# Altium footprint library QSTL_24DC_4MW_PCB.PcbLib: 2 footprints
Each footprint in its own frame and in the unit in brackets; x right, y up, seen from the top. Pads: shape width x height; smd on the part's side, far side on the other; paste and mask are expansions set on the pad; w line width, h text height; cw(c..) or ccw(c..) is an arc to the next point about the centre after c.
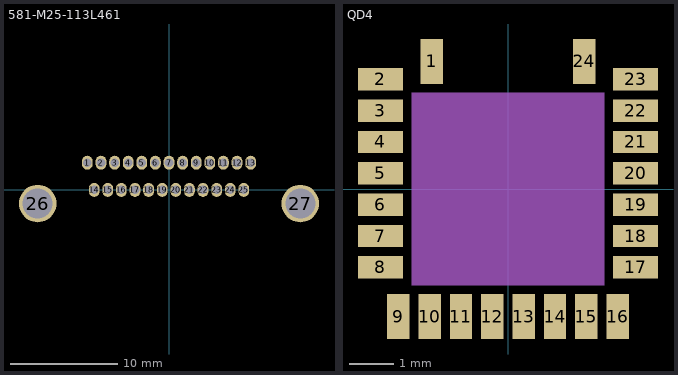
[diagram p0: the footprints below, top view; thin cyan lines are the x and y axes]

## 581-M25-113L461 [mm]
pads (27):
  oval 1x1.3 hole 0.8: 1(-7.62,2.54) 2(-6.35,2.54) 3(-5.08,2.54) 4(-3.81,2.54) 5(-2.54,2.54) 6(-1.27,2.54) 7(0,2.54) 8(1.27,2.54) 9(2.54,2.54) 10(3.81,2.54) 11(5.08,2.54) 12(6.35,2.54) 13(7.62,2.54) 14(-6.985,0) 15(-5.715,0) 16(-4.445,0) 17(-3.175,0) 18(-1.905,0) 19(-0.635,0) 20(0.635,0) 21(1.905,0) 22(3.175,0) 23(4.445,0) 24(5.715,0) 25(6.985,0)
  round 3.5 hole 2.8: 26(-12.255,-1.27) 27(12.255,-1.27)
3D body "581-M25-113L461.STEP": height 7.9, standoff -2.7, extent -15.07,-11.62 15.03,3.45

## QD4 [mm]
pads (24):
  rect 0.5x1 smd: 1(-1.7,2.85) 9(-2.45,-2.85) 10(-1.75,-2.85) 11(-1.05,-2.85) 12(-0.35,-2.85) 13(0.35,-2.85) 14(1.05,-2.85) 15(1.75,-2.85) 16(2.45,-2.85) 24(1.7,2.85)
  rect 1x0.5 smd: 2(-2.85,2.45) 3(-2.85,1.75) 4(-2.85,1.05) 5(-2.85,0.35) 6(-2.85,-0.35) 7(-2.85,-1.05) 8(-2.85,-1.75) 17(2.85,-1.75) 18(2.85,-1.05) 19(2.85,-0.35) 20(2.85,0.35) 21(2.85,1.05) 22(2.85,1.75) 23(2.85,2.45)
Mechanical 1:
  rectangle: -2.15,-2.15 2.15,2.15